# Altium footprint library wikiduino-micro-bk7251.PcbLib: 30 footprints (part 2 of 2)
Each footprint in its own frame and in the unit in brackets; x right, y up, seen from the top. Pads: shape width x height; smd on the part's side, far side on the other; paste and mask are expansions set on the pad; w line width, h text height; cw(c..) or ccw(c..) is an arc to the next point about the centre after c.
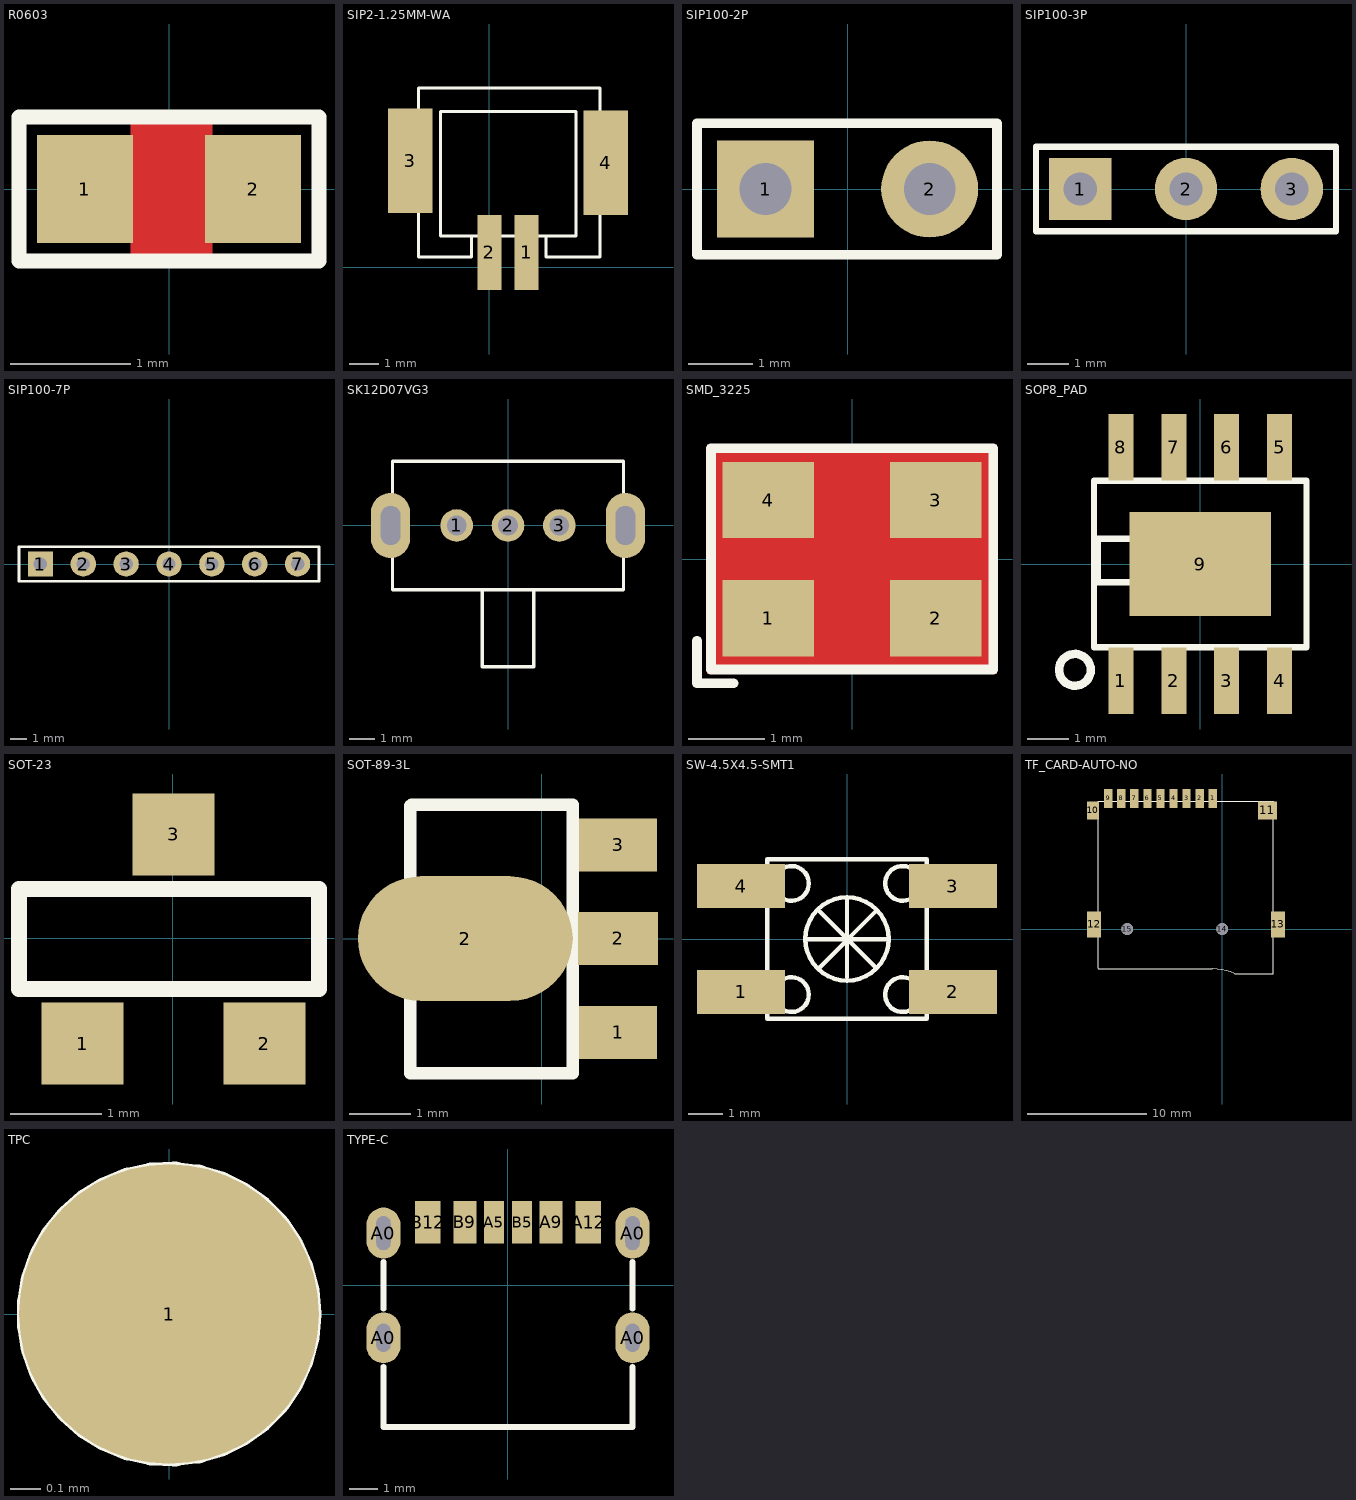
[diagram p1: the footprints below, top view; thin cyan lines are the x and y axes]

## R0603 [mil]
height 31
pads (2):
  rect 31.5x35.4 smd: 1(-27.56,0) 2(27.56,0)
Top Layer:
  pour cut-out: -12.6,22.44 14.17,22.44 14.17,-23.23 -12.6,-23.23
Top Overlay:
  lines w5: -49.21,-23.62 49.21,-23.62 49.21,23.62 -49.21,23.62 -49.21,-23.62

## SIP2-1.25MM-WA [mm]
pads (4):
  rect 0.8x2.5 smd: 1(1.25,0.5) 2(0,0.5)
  rect 1.5x3.5 smd: 3(-2.65,3.57) 4(3.9,3.501)
Top Overlay:
  lines w0.102: -0.59,0.977 -0.59,0.355 -2.369,0.355 -2.369,6.003 3.7,6.003 3.7,0.355 1.9,0.355 1.9,0.979 ; -1.636,1.048 2.9,1.048 2.9,5.23 -1.636,5.23 -1.636,1.048

## SIP100-2P [mm]
pads (2):
  rect 1.5x1.5 hole 0.8: 1(-1.27,0)
  round 1.5 hole 0.8: 2(1.27,0)
Top Overlay:
  lines w0.15: -2.33,-1.016 -2.33,1.016 2.311,1.016 2.311,-1.016 -2.33,-1.016

## SIP100-3P [mm]
pads (3):
  rect 1.5x1.5 hole 0.8: 1(-2.54,0)
  round 1.5 hole 0.8: 2(0,0) 3(2.54,0)
Top Overlay:
  lines w0.15: -3.6,-1.016 3.6,-1.016 3.6,1.016 -3.6,1.016 -3.6,-1.016

## SIP100-7P [mm]
pads (7):
  rect 1.5x1.5 hole 0.8: 1(-7.62,0)
  round 1.5 hole 0.8: 2(-5.08,0) 3(-2.54,0) 4(0,0) 5(2.54,0) 6(5.08,0) 7(7.62,0)
Top Overlay:
  lines w0.15: -8.89,-1.016 8.89,-1.016 8.89,1.016 -8.89,1.016 -8.89,-1.016

## SK12D07VG3 [mil]
pads (5):
  round 50 hole 30: 1(-78.74,0) 2(0,0) 3(78.74,0)
  oval 60x100 hole 30 slot 60 at 90 deg: ""(-180,0) ""(180,0)
Top Overlay:
  lines w5: -39.37,-98.43 -39.37,-216.54 39.37,-216.54 39.37,-98.43 ; 177.17,-98.42 177.17,98.43 ; 177.17,-98.42 177.17,-98.42 ; 177.17,-98.42 -177.17,-98.43 -177.17,98.42 -177.17,98.43 177.17,98.43 ; 177.17,98.43 177.17,98.43

## SMD_3225 [mm]
pads (4):
  rect 1.2x1 smd: 1(-1.1,-0.775) 2(1.1,-0.775) 3(1.1,0.775) 4(-1.1,0.775)
Top Layer:
  pour cut-out: -1.9,1.5 1.9,1.5 1.9,-1.5 -1.9,-1.5
Top Overlay:
  lines w0.127: -2.032,-1.067 -2.032,-1.626 -1.549,-1.626 ; -1.848,-1.447 1.852,-1.447 1.852,1.453 -1.848,1.453 -1.848,-1.447

## SOP8_PAD [mm]
pads (9):
  rect 0.6x1.6 smd: 1(-1.905,-2.8) 2(-0.635,-2.8) 3(0.635,-2.8) 4(1.905,-2.8) 5(1.905,2.8) 6(0.635,2.8) 7(-0.635,2.8) 8(-1.905,2.8)
  rect 3.4x2.5 smd: 9(0,0)
Top Overlay:
  circle w0.203: c-3.009,-2.54 r0.381
  lines w0.152: -2.55,-2 -2.55,2 2.55,2 2.55,-2 -2.55,-2 ; -2.462,-0.436 -2.462,0.61 -1.467,0.61 -1.467,-0.436 -2.462,-0.436

## SOT-23 [mm]
pads (3):
  rect 0.9x0.9 smd: 1(-0.991,-1.161) 2(1.009,-1.161) 3(0.009,1.139)
Top Overlay:
  lines w0.178: -1.691,-0.561 1.609,-0.561 1.609,0.539 -1.691,0.539 -1.691,-0.561

## SOT-89-3L [mil]
pads (4):
  rect 50x34 smd: 1(49,-60.15) 3(49,60.15)
  oval 137.8x80 smd: 2(-49,0)
  rect 51.18x34 smd: 2(49,0.15)
Top Overlay:
  lines w7.87: -84.36,-86.49 19.81,-86.49 19.81,85.96 -83.55,85.96
  lines w8: -84.36,-86.49 -84.36,85.15

## SW-4.5X4.5-SMT1 [mil]
pads (4):
  rect 100x50 smd: 1(-120,-60) 2(120,-60) 3(120,60) 4(-120,60)
Top Overlay:
  circle w5: c0,0 r47.24
  circle w5: c62.99,62.99 r19.68
  circle w5: c-62.99,62.99 r19.68
  circle w5: c-62.99,-62.99 r19.68
  circle w5: c62.99,-62.99 r19.68
  lines w5: -44.36,-0.25 44.79,-0.25 ; -30.92,31.14 31.51,-31.29 ; -30.68,-31.89 31.85,30.64 ; -0.03,-43.19 -0.03,44.21 ; -90.55,-90.55 90.55,-90.55 90.55,90.55 -90.55,90.55 -90.55,-90.55

## TF_CARD-AUTO-NO [mm]
pads (15):
  rect 0.7x1.6 smd: 1(-0.8,11) 2(-1.9,11) 3(-3,11) 4(-4.1,11) 5(-5.2,11) 6(-6.3,11) 7(-7.4,11) 8(-8.5,11) 9(-9.6,11)
  rect 1x1.5 smd: 10(-10.9,10)
  rect 1.6x1.5 smd: 11(3.8,10)
  rect 1.2x2.2 smd: 12(-10.8,0.4) 13(4.7,0.4)
  round 1 hole 1 unplated: 14(0,0) 15(-8,0)
Top Overlay:
  lines w0.1: -10.432,10.749 4.329,10.749 ; -10.429,-3.35 -0.825,-3.35 ; -10.429,-3.301 -10.429,10.751 ; -0.802,-3.35 cw(c-0.926,-8.411) 1.044,-3.747 ; 1.05,-3.75 4.321,-3.75 ; 4.321,-3.775 4.321,10.751

## TPC [mm]
pads (1):
  round 1 smd: 1(0,0)
Top Overlay:
  circle w0.102: c0,0 r0.457

## TYPE-C [mm]
pads (10):
  oval 1.2x1.8 hole 0.5 slot 1 at 90 deg: A0(-4.4,-1.85) A0(4.4,-1.85)
  oval 1.2x1.8 hole 0.5 slot 1.2 at 90 deg: A0(-4.4,1.85) A0(4.4,1.85)
  rect 0.7x1.5 smd: A5(-0.5,2.231) B5(0.5,2.231)
  rect 0.8x1.5 smd: A9(1.52,2.231) B9(-1.52,2.231)
  rect 0.9x1.5 smd: A12(2.83,2.231) B12(-2.83,2.231)
Top Overlay:
  lines w0.2: -4.4,-2.87 -4.4,-5 4.4,-5 4.4,-2.88 ; -4.4,-0.83 -4.4,0.83 ; 4.4,-0.82 4.4,0.83